# Altium schematic symbol library Other_devices.SchLib: 6 symbols
Pins are listed as number, name and electrical type; pins without a type are passive.

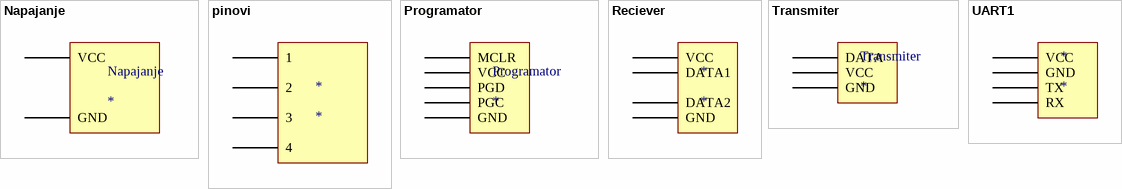
[diagram p0: symbols Napajanje to UART1]

## Napajanje
designator Napajanje
pins: GND, VCC

## pinovi
designator *
pins: 36 1, 37 2, 38 3, 39 4

## Programator
designator Programator
pins: 24 MCLR, 25 VCC, 26 PGD, 27 PGC, 28 GND

## Reciever
designator *
pins: 30 VCC, 31 DATA1, 32 DATA2, 33 GND

## Transmiter
designator Transmiter
pins: 24 DATA, 25 VCC, 26 GND

## UART1
designator *
pins: 24 VCC, 25 GND, 26 TX, 27 RX